# EAGLE library part PCM3060 (library bnahill)
PCM3060 - Burr-Brown 24-bit CODEC 96kHz ADC / 192kHz DAC TSSOP28 Package
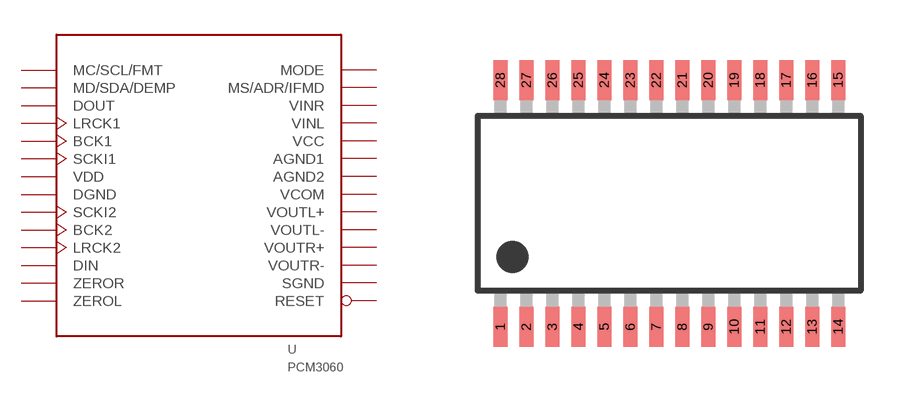
[diagram p7: symbol with the pads of TSSOP28; footprint TSSOP28]

Designator prefix -

## PCM3060  [TSSOP28]
1  MC/SCL/FMT  in
2  MD/SDA/DEMP
3  DOUT  out
4  LRCK1
5  BCK1
6  SCKI1  in
7  VDD  pwr
8  DGND  pwr
9  SCKI2  in
10  BCK2
11  LRCK2
12  DIN  in
13  ZEROR  out
14  ZEROL  out
15  RESET  in
16  SGND  pwr
17  VOUTR-  out
18  VOUTR+  out
19  VOUTL-  out
20  VOUTL+  out
21  VCOM  pwr
22  AGND2  pwr
23  AGND1  pwr
24  VCC  pwr
25  VINL  in
26  VINR  in
27  MS/ADR/IFMD  in
28  MODE  in

## Footprint TSSOP28 (pad centres in mm)
smd 0.35 x 1: 1 -4.225,-3.087; 2 -3.575,-3.087; 3 -2.925,-3.087; 4 -2.275,-3.087; 5 -1.625,-3.087; 6 -0.975,-3.087; 7 -0.325,-3.087; 8 0.325,-3.087; 9 0.975,-3.087; 10 1.625,-3.087; 11 2.275,-3.087; 12 2.925,-3.087; 13 3.575,-3.087; 14 4.225,-3.087; 15 4.225,3.087; 16 3.575,3.087; 17 2.925,3.087; 18 2.275,3.087; 19 1.625,3.087; 20 0.975,3.087; 21 0.325,3.087; 22 -0.325,3.087; 23 -0.975,3.087; 24 -1.625,3.087; 25 -2.275,3.087; 26 -2.925,3.087; 27 -3.575,3.087; 28 -4.225,3.087